# Altium schematic symbol library SCH - DRIVER - LED - TI TLC59116-Q1PW.SchLib: 1 symbol
Pins are listed as number, name and electrical type; pins without a type are passive.

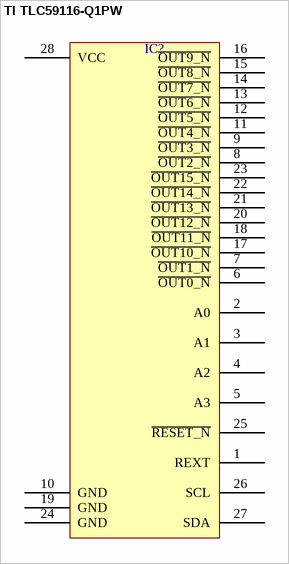
[diagram p0: symbol TI TLC59116-Q1PW]

## TI TLC59116-Q1PW
designator IC?  (value not drawn)
pins: 1 REXT, 2 A0, 3 A1, 4 A2, 5 A3, 6 ~{OUT0_N}, 7 ~{OUT1_N}, 8 ~{OUT2_N}, 9 ~{OUT3_N}, 10 GND, 11 ~{OUT4_N}, 12 ~{OUT5_N}, 13 ~{OUT6_N}, 14 ~{OUT7_N}, 15 ~{OUT8_N}, 16 ~{OUT9_N}, 17 ~{OUT10_N}, 18 ~{OUT11_N}, 19 GND, 20 ~{OUT12_N}, 21 ~{OUT13_N}, 22 ~{OUT14_N}, 23 ~{OUT15_N}, 24 GND, 25 ~{RESET_N}, 26 SCL, 27 SDA, 28 VCC